# Altium footprint library TQFP-32.PcbLib: 1 footprints
Each footprint in its own frame and in the unit in brackets; x right, y up, seen from the top. Pads: shape width x height; smd on the part's side, far side on the other; paste and mask are expansions set on the pad; w line width, h text height; cw(c..) or ccw(c..) is an arc to the next point about the centre after c.
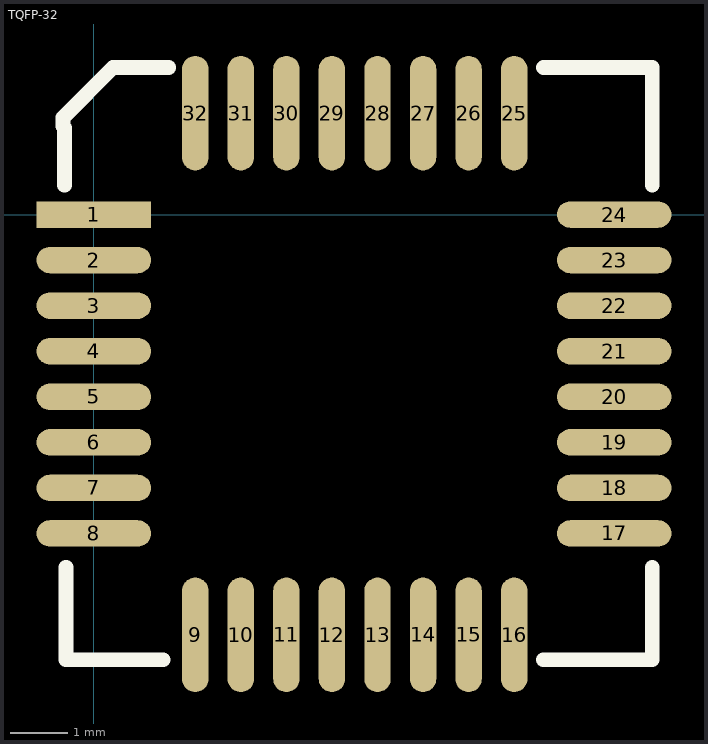
[diagram p0: the footprint, top view; thin cyan lines are the x and y axes]

## TQFP-32 [mil]
pads (32):
  rect 78x18 smd: 1(0,0)
  oval 78x18 smd: 2(0,-31) 3(0,-62) 4(0,-93) 5(0,-124) 6(0,-155) 7(0,-186) 8(0,-217) 17(354,-217) 18(354,-186) 19(354,-155) 20(354,-124) 21(354,-93) 22(354,-62) 23(354,-31) 24(354,0)
  oval 18x78 smd: 9(69,-286) 10(100,-286) 11(131,-286) 12(162,-286) 13(193,-286) 14(224,-286) 15(255,-286) 16(286,-286) 25(286,69) 26(255,69) 27(224,69) 28(193,69) 29(162,69) 30(131,69) 31(100,69) 32(69,69)
TopOverlay:
  lines w10: -20,20 -20,59 -21,60 -21,66 13,100 51,100 ; -19,-240 -19,-303 47,-303 ; 306,-303 380,-303 380,-240 ; 306,100 380,100 380,20
  text "." at -80,20 h60
Mechanical4:
  text ".047" at 0,0 h1